# Altium schematic symbol library REF35102QDBVR.SchLib: 1 symbol
Pins are listed as number, name and electrical type; pins without a type are passive.

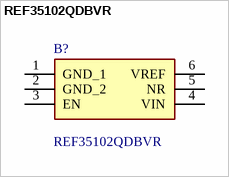
[diagram p0: symbol REF35102QDBVR]

## REF35102QDBVR
designator B?
Voltage References 650-nA quiescent current, 12-ppm/C drift, ultra-low-power precision voltage reference; Manufacturer_Name: Texas Instruments; Geometry.Height: 1.45mm; Mouser Part Number: 595-REF35102QDBVR; Mouser Price/Stock: https://www.mouser.co.uk/ProductDetail/Texas-Instruments/REF35102QDBVR?qs=rQFj71Wb1eWXaO82zju2Vg%3D%3D; Manufacturer_Part_Number: REF35102QDBVR; Datasheet Link: https://www.ti.com/lit/ds/symlink/ref35.pdf
footprint SOT95P280X145-6N
pins: 1 GND_1, 2 GND_2, 3 EN, 4 VIN, 5 NR, 6 VREF